# Altium footprint library B8B-XH-TW .PcbLib: 1 footprints
Each footprint in its own frame and in the unit in brackets; x right, y up, seen from the top. Pads: shape width x height; smd on the part's side, far side on the other; paste and mask are expansions set on the pad; w line width, h text height; cw(c..) or ccw(c..) is an arc to the next point about the centre after c.
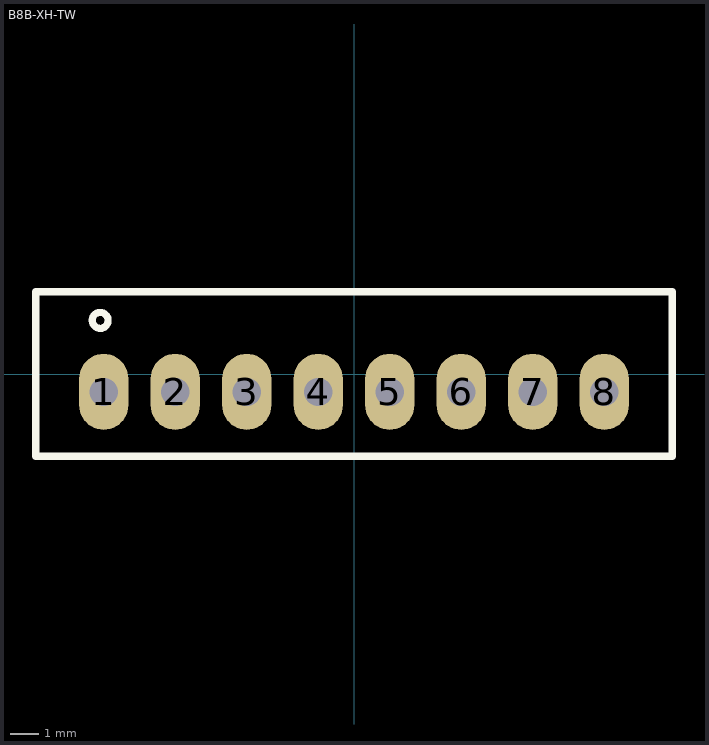
[diagram p0: the footprint, top view; thin cyan lines are the x and y axes]

## B8B-XH-TW [mm]
pads (8):
  oval 1.75x2.7 hole 1: 1(-8.89,-0.635) 2(-6.35,-0.635) 3(-3.81,-0.635) 4(-1.27,-0.635) 5(1.27,-0.635) 6(3.81,-0.635) 7(6.35,-0.635) 8(8.89,-0.635)
Top Overlay:
  circle w0.254: c-9.017,1.905 r0.284
  lines w0.254: -11.303,-2.921 11.303,-2.921 11.303,2.921 -11.303,2.921 -11.303,-2.921
3D body "JST 2_54 8x.STEP": height 6.88, standoff -3.2, extent -11.29,-2.875 11.29,2.875